# Altium footprint library BAT_3034.PcbLib: 1 footprints
Each footprint in its own frame and in the unit in brackets; x right, y up, seen from the top. Pads: shape width x height; smd on the part's side, far side on the other; paste and mask are expansions set on the pad; w line width, h text height; cw(c..) or ccw(c..) is an arc to the next point about the centre after c.
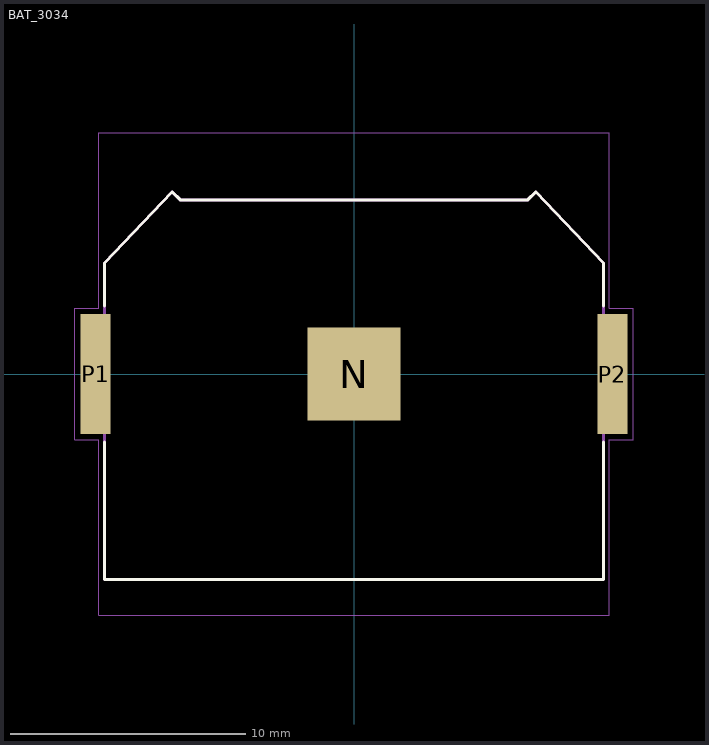
[diagram p0: the footprint, top view; thin cyan lines are the x and y axes]

## BAT_3034 [mm]
height 4.31
pads (3):
  rect 3.96x3.96 smd paste-3: N(0,0)
  rect 1.27x5.08 smd: P1(-10.985,0) P2(10.985,0)
Top Overlay:
  lines w0.127: -10.605,-2.9 -10.605,-8.729 10.605,-8.729 10.605,-2.9 ; -10.605,2.9 -10.605,4.723 -7.734,7.741 -7.366,7.391 7.366,7.391 7.734,7.741 10.605,4.723 10.605,2.9
Mechanical 13:
  lines w0.127: -10.605,-8.729 10.605,-8.729 10.605,4.723 7.734,7.741 7.366,7.391 -7.366,7.391 -7.734,7.741 -10.605,4.723 -10.605,-8.729
Mechanical 15:
  lines w0.05: -11.87,-2.79 -10.855,-2.79 -10.855,-10.25 10.855,-10.25 10.855,-2.79 11.87,-2.79 11.87,2.79 10.855,2.79 10.855,10.25 -10.855,10.25 -10.855,2.79 -11.87,2.79 -11.87,-2.79
3D body "3034--3DModel-STEP-630548.STEP": height 4.06, standoff 0, extent -11.494,-9.265 11.747,7.211